# EAGLE library part CD4541BCM (library Fairchild_By_element14_Batch_1)
Programmable Timer
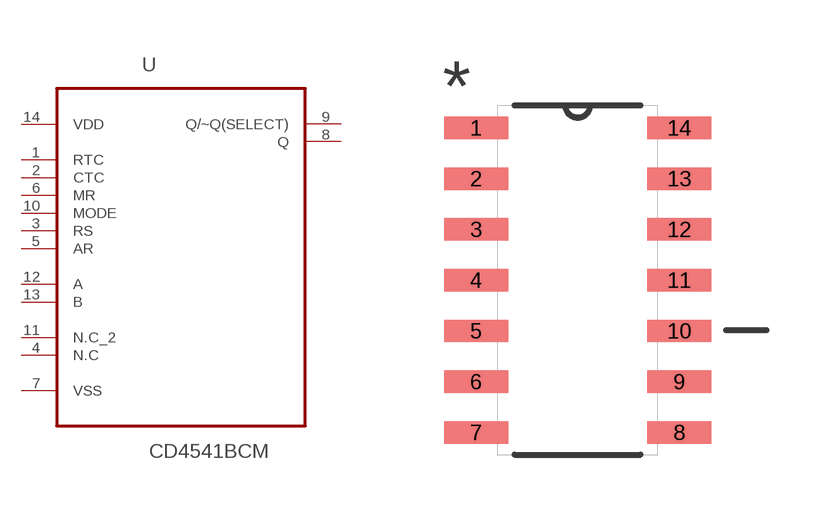
[diagram p175: symbol with the pads of SOIC127P600X175-14N; footprint SOIC127P600X175-14N]

Designator prefix U

## CD4541BCM (MPN: CD4541BCM; OC_FARNELL: -; OC_NEWARK: 78K5878; PACKAGE: SOIC-14; SUPPLIER: Fairchild)  [SOIC127P600X175-14N]
1  RTC  in
2  CTC  in
3  RS  in
4  N.C  nc
5  AR  in
6  MR  in
7  VSS  pwr
8  Q  out
9  Q/~Q(SELECT)  out
10  MODE  in
11  N.C_2  nc
12  A  pas
13  B  pas
14  VDD  pwr

## Footprint SOIC127P600X175-14N (pad centres in mm)
smd 1.6 x 0.559: 1 -2.54,3.81; 2 -2.54,2.54; 3 -2.54,1.27; 4 -2.54,0; 5 -2.54,-1.27; 6 -2.54,-2.54; 7 -2.54,-3.81; 8 2.54,-3.81; 9 2.54,-2.54; 10 2.54,-1.27; 11 2.54,0; 12 2.54,1.27; 13 2.54,2.54; 14 2.54,3.81